# Altium footprint library 3PinMolex.PcbLib: 1 footprints
Each footprint in its own frame and in the unit in brackets; x right, y up, seen from the top. Pads: shape width x height; smd on the part's side, far side on the other; paste and mask are expansions set on the pad; w line width, h text height; cw(c..) or ccw(c..) is an arc to the next point about the centre after c.
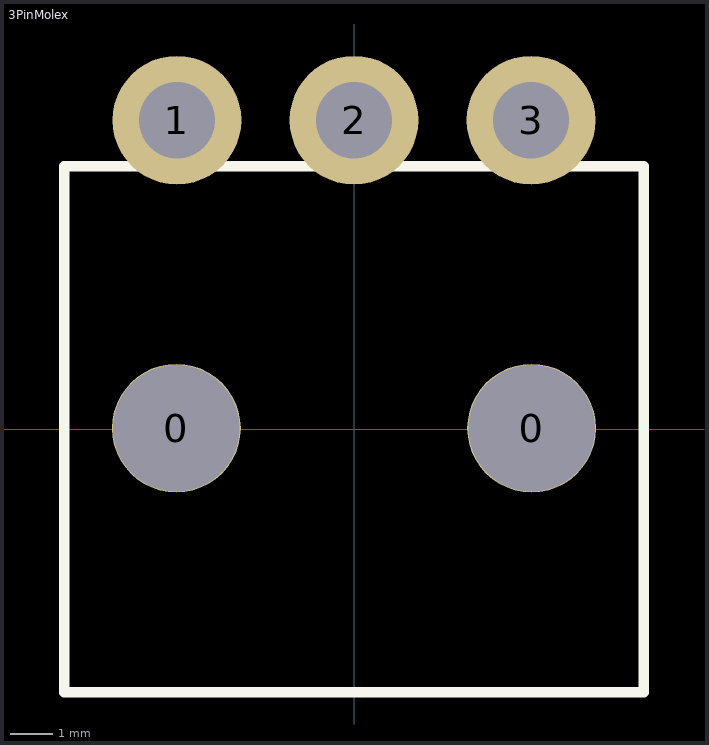
[diagram p0: the footprint, top view; thin cyan lines are the x and y axes]

## 3PinMolex [mil]
pads (5):
  round 120 hole 118: 0(-165.5,1) 0(165.5,1)
  round 120 hole 71: 1(-165,288) 2(0,288) 3(165,288)
Top Overlay:
  lines w10: -270,-245 270,-245 270,245 -270,245 -270,-245